# Altium footprint library F10wers_Footprints.PcbLib: 41 footprints (part 1 of 3)
Each footprint in its own frame and in the unit in brackets; x right, y up, seen from the top. Pads: shape width x height; smd on the part's side, far side on the other; paste and mask are expansions set on the pad; w line width, h text height; cw(c..) or ccw(c..) is an arc to the next point about the centre after c.
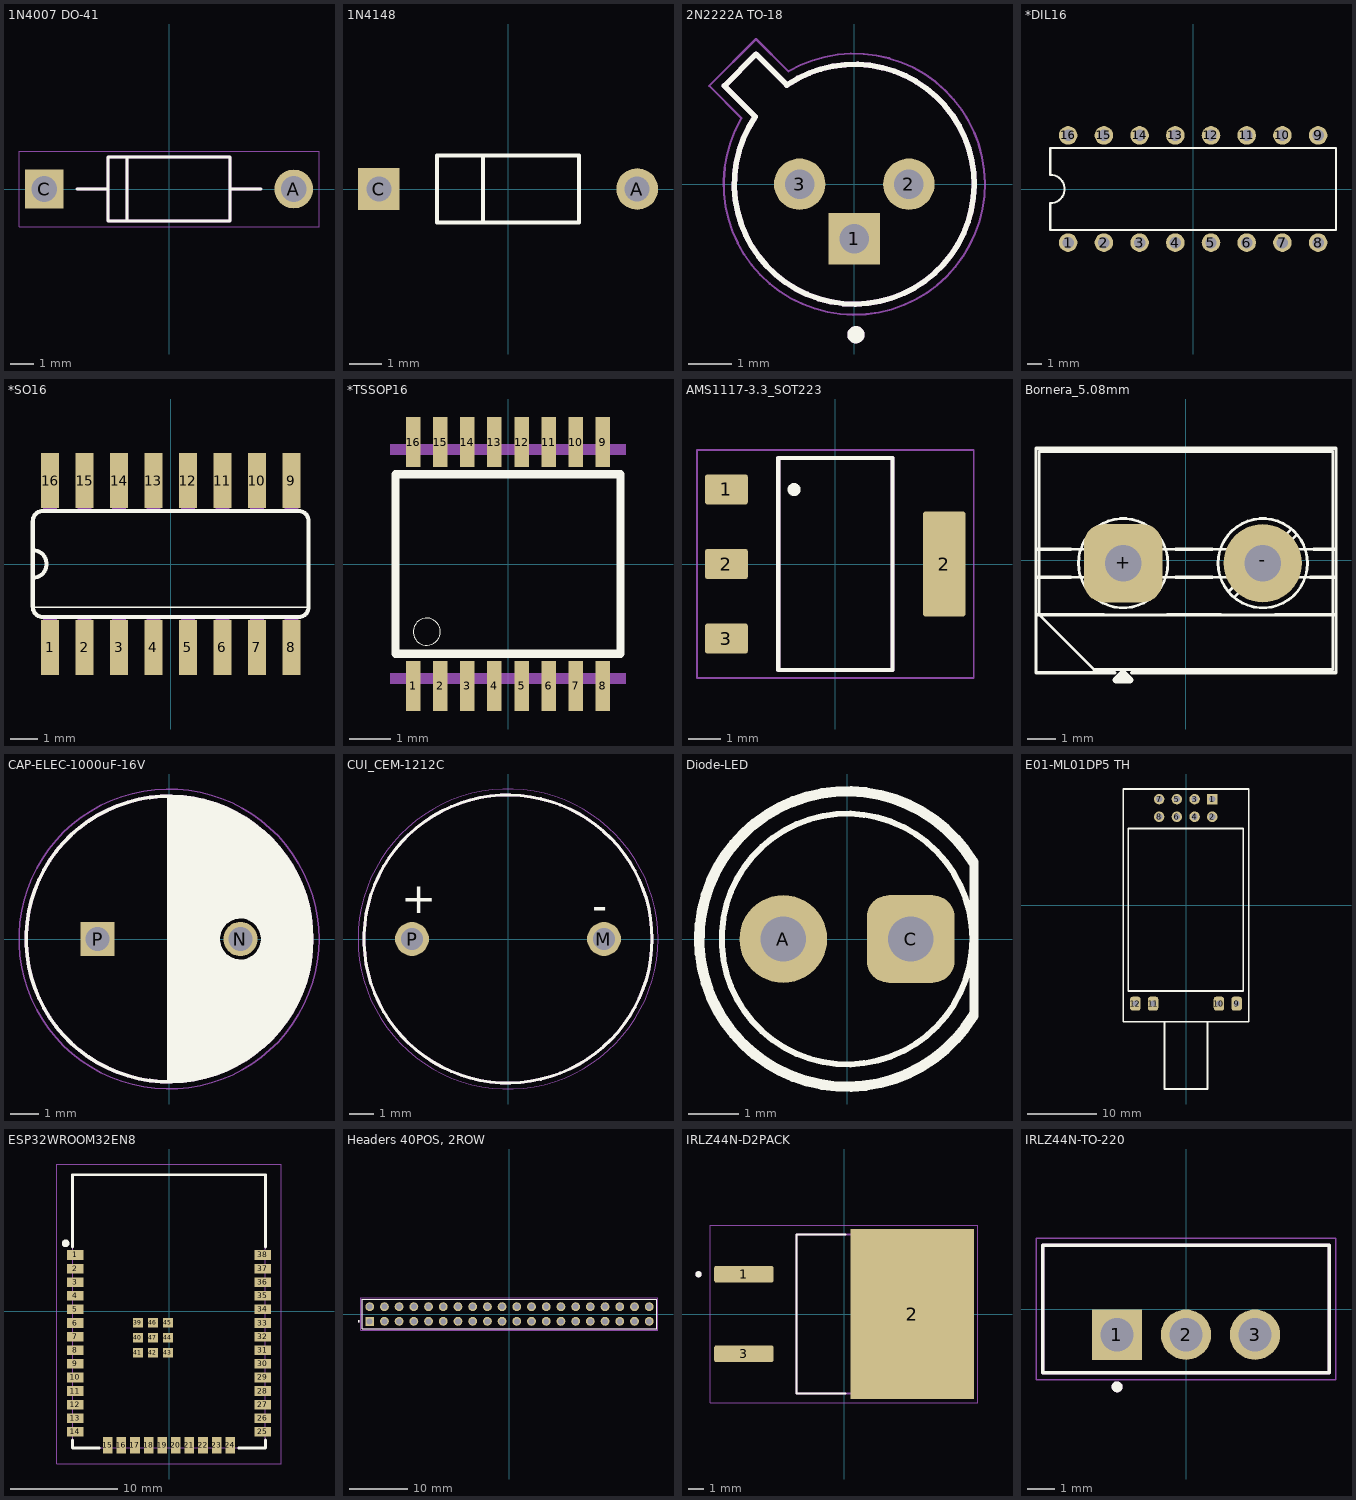
[diagram p0: the footprints below, top view; thin cyan lines are the x and y axes]

## 1N4007 DO-41 [mm]
pads (2):
  round 1.65 hole 1.1 mask+0.102: A(5.3,0)
  rect 1.65x1.65 / inner round 1.65 / far side rect 1.65x1.65 hole 1.1 mask+0.102: C(-5.3,0)
Top Overlay:
  lines w0.127: -3.9,0 -2.6,0 ; 3.9,0 2.6,0 ; -2.6,0 -2.6,1.35 -1.775,1.35 ; -2.6,0 -2.6,-1.35 -1.775,-1.35 ; -1.775,-1.35 2.6,-1.35 2.6,0 ; -1.775,-1.35 -1.775,1.35 ; -1.775,1.35 2.6,1.35 2.6,0
Mechanical 13:
  lines w0.127: -3.9,0 -2.6,0 ; 3.9,0 2.6,0 ; -2.6,0 -2.6,1.35 -1.775,1.35 ; -2.6,0 -2.6,-1.35 -1.775,-1.35 ; -1.775,-1.35 2.6,-1.35 2.6,0 ; -1.775,-1.35 -1.775,1.35 ; -1.775,1.35 2.6,1.35 2.6,0
Mechanical 15:
  lines w0.05: -6.375,-1.6 6.375,-1.6 6.375,1.6 -6.375,1.6 -6.375,-1.6
3D body "1N4007 DO-41.STEP": height 2.89, standoff -4.07, extent -5.545,-1.3 5.4,1.3

## 1N4148 [mm]
pads (2):
  round 1.268 hole 0.76: A(3.937,0)
  rect 1.268x1.268 / inner round 1.268 / far side rect 1.268x1.268 hole 0.76: C(-3.937,0)
Top Overlay:
  lines w0.127: -0.762,-1.016 -0.762,1.016 ; -2.159,-1.016 2.159,-1.016 2.159,1.016 -2.159,1.016 -2.159,0.508 -2.159,-0.508 -2.159,-1.016
3D body "1N4148-1.STEP": height 1.69, standoff -23.57, extent -4.3,-0.85 4.3,0.85

## 2N2222A TO-18 [mm]
height 5.3
pads (3):
  rect 1.198x1.198 / inner round 1.198 / far side rect 1.198x1.198 hole 0.69 mask+0.102: 1(0,-1.27)
  round 1.198 hole 0.69 mask+0.102: 2(1.27,0) 3(-1.27,0)
Top Overlay:
  circle w0.2: c0.038,-3.5 r0.1
  lines w0.127: -2.311,1.559 ccw(c0,0) -1.559,2.311 ; -2.305,1.568 -3.022,2.285 -2.285,3.022 -1.568,2.305
Mechanical 13:
  circle w0.2: c0.038,-3.5 r0.1
  lines w0.127: -2.311,1.559 ccw(c0,0) -1.559,2.311 ; -2.305,1.568 -3.022,2.285 -2.285,3.022 -1.568,2.305
Mechanical 15:
  lines w0.05: -2.631,1.519 ccw(c0,0) -1.519,2.631 ; -2.623,1.533 -3.375,2.285 -2.285,3.375 -1.533,2.623
3D body "step_temp.STEP": height 5.33, standoff -19.05, extent -3.022,-2.788 2.788,3.022

## *DIL16 [mil]
pads (16):
  round 52 hole 32: 1(-350,-150) 2(-250,-150) 3(-150,-150) 4(-50,-150) 5(50,-150) 6(150,-150) 7(250,-150) 8(350,-150) 9(350,150) 10(250,150) 11(150,150) 12(50,150) 13(-50,150) 14(-150,150) 15(-250,150) 16(-350,150)
Top Overlay:
  lines w6: -400,-115 -400,-40 ccw(c-400,0) -400,40 -400,115 400,115 400,-115 -400,-115
3D body "ULN2003A--3DModel-STEP-269445.STEP": height 209.84, standoff -154.76, extent -377.56,-164.76 377.56,154.92

## *SO16 [mil]
pads (16):
  rect 26x80 smd: 1(-175,-121) 2(-125,-121) 3(-75,-121) 4(-25,-121) 5(25,-121) 6(75,-121) 7(125,-121) 8(175,-121) 9(175,121) 10(125,121) 11(75,121) 12(25,121) 13(-25,121) 14(-75,121) 15(-125,121) 16(-175,121)
Top Overlay:
  lines w2: -200,-63 200,-63
  lines w6: -200,-20 ccw(c-200,0) -200,20 ; -200,-20 -200,-62 ccw(c-185,-62) -185,-77 185,-77 ccw(c185,-62) 200,-62 200,62 ccw(c185,62) 185,77 -185,77 ccw(c-185,62) -200,62 -200,20 ; -200,-20 -200,20
Mechanical 4:
  region: 165,122 185,122 185,77 165,77
  region: 115,122 135,122 135,77 115,77
  region: 65,122 85,122 85,77 65,77
  region: 15,122 35,122 35,77 15,77
  region: 165,-77 185,-77 185,-122 165,-122
  region: 115,-77 135,-77 135,-122 115,-122
  region: 65,-77 85,-77 85,-122 65,-122
  region: 15,-77 35,-77 35,-122 15,-122
  region: -185,122 -165,122 -165,77 -185,77
  region: -135,122 -115,122 -115,77 -135,77
  region: -85,122 -65,122 -65,77 -85,77
  region: -35,-77 -15,-77 -15,-122 -35,-122
  region: -85,-76 -65,-76 -65,-121 -85,-121
  region: -135,-77 -115,-77 -115,-122 -135,-122
  region: -185,-77 -165,-77 -165,-122 -185,-122
  region: -35,122 -15,122 -15,77 -35,77
  region: 165,122 185,122 185,77 165,77
  region: 115,122 135,122 135,77 115,77
  region: 65,122 85,122 85,77 65,77
  region: 15,122 35,122 35,77 15,77
  region: 165,-77 185,-77 185,-122 165,-122
  region: 115,-77 135,-77 135,-122 115,-122
  region: 65,-77 85,-77 85,-122 65,-122
  region: 15,-77 35,-77 35,-122 15,-122
  region: -185,122 -165,122 -165,77 -185,77
  region: -135,122 -115,122 -115,77 -135,77
  region: -85,122 -65,122 -65,77 -85,77
  region: -35,-77 -15,-77 -15,-122 -35,-122
  region: -85,-76 -65,-76 -65,-121 -85,-121
  region: -135,-77 -115,-77 -115,-122 -135,-122
  region: -185,-77 -165,-77 -165,-122 -185,-122
  region: -35,122 -15,122 -15,77 -35,77

## *TSSOP16 [mm]
pads (16):
  rect 0.35x1.2 smd: 1(-2.275,-2.925) 2(-1.625,-2.925) 3(-0.975,-2.925) 4(-0.325,-2.925) 5(0.325,-2.925) 6(0.975,-2.925) 7(1.625,-2.925) 8(2.275,-2.925) 9(2.275,2.925) 10(1.625,2.925) 11(0.975,2.925) 12(0.325,2.925) 13(-0.325,2.925) 14(-0.975,2.925) 15(-1.625,2.925) 16(-2.275,2.925)
Top Overlay:
  circle w0: c-1.95,-1.625 r0.325
  lines w0.203: -2.7,-2.15 2.7,-2.15 2.7,2.15 -2.7,2.15 -2.7,-2.15
Top Solder:
  region: -2.5,3.6 -2.05,3.6 -2.05,2.25 -2.5,2.25
  region: -1.85,3.6 -1.4,3.6 -1.4,2.25 -1.85,2.25
  region: -1.2,3.6 -0.75,3.6 -0.75,2.25 -1.2,2.25
  region: -0.55,3.6 -0.1,3.6 -0.1,2.25 -0.55,2.25
  region: 0.1,3.6 0.55,3.6 0.55,2.25 0.1,2.25
  region: 0.75,3.6 1.2,3.6 1.2,2.25 0.75,2.25
  region: 1.4,3.6 1.85,3.6 1.85,2.25 1.4,2.25
  region: 2.05,3.6 2.5,3.6 2.5,2.25 2.05,2.25
  region: 2.05,-2.25 2.5,-2.25 2.5,-3.6 2.05,-3.6
  region: 1.4,-2.25 1.85,-2.25 1.85,-3.6 1.4,-3.6
  region: 0.75,-2.25 1.2,-2.25 1.2,-3.6 0.75,-3.6
  region: 0.1,-2.25 0.55,-2.25 0.55,-3.6 0.1,-3.6
  region: -0.55,-2.25 -0.1,-2.25 -0.1,-3.6 -0.55,-3.6
  region: -1.2,-2.25 -0.75,-2.25 -0.75,-3.6 -1.2,-3.6
  region: -1.85,-2.25 -1.4,-2.25 -1.4,-3.6 -1.85,-3.6
  region: -2.5,-2.25 -2.05,-2.25 -2.05,-3.6 -2.5,-3.6
Mechanical 4:
  region: -2.825,2.875 -1.725,2.875 -1.725,2.625 -2.825,2.625
  region: -2.175,2.875 -1.075,2.875 -1.075,2.625 -2.175,2.625
  region: -1.525,2.875 -0.425,2.875 -0.425,2.625 -1.525,2.625
  region: -0.875,2.875 0.225,2.875 0.225,2.625 -0.875,2.625
  region: -0.225,2.875 0.875,2.875 0.875,2.625 -0.225,2.625
  region: 0.425,2.875 1.525,2.875 1.525,2.625 0.425,2.625
  region: 1.075,2.875 2.175,2.875 2.175,2.625 1.075,2.625
  region: 1.725,2.875 2.825,2.875 2.825,2.625 1.725,2.625
  region: 1.725,-2.625 2.825,-2.625 2.825,-2.875 1.725,-2.875
  region: 1.075,-2.625 2.175,-2.625 2.175,-2.875 1.075,-2.875
  region: 0.425,-2.625 1.525,-2.625 1.525,-2.875 0.425,-2.875
  region: -0.225,-2.625 0.875,-2.625 0.875,-2.875 -0.225,-2.875
  region: -0.875,-2.625 0.225,-2.625 0.225,-2.875 -0.875,-2.875
  region: -1.525,-2.625 -0.425,-2.625 -0.425,-2.875 -1.525,-2.875
  region: -2.175,-2.625 -1.075,-2.625 -1.075,-2.875 -2.175,-2.875
  region: -2.825,-2.625 -1.725,-2.625 -1.725,-2.875 -2.825,-2.875
  region: -2.825,2.875 -1.725,2.875 -1.725,2.625 -2.825,2.625
  region: -2.175,2.875 -1.075,2.875 -1.075,2.625 -2.175,2.625
  region: -1.525,2.875 -0.425,2.875 -0.425,2.625 -1.525,2.625
  region: -0.875,2.875 0.225,2.875 0.225,2.625 -0.875,2.625
  region: -0.225,2.875 0.875,2.875 0.875,2.625 -0.225,2.625
  region: 0.425,2.875 1.525,2.875 1.525,2.625 0.425,2.625
  region: 1.075,2.875 2.175,2.875 2.175,2.625 1.075,2.625
  region: 1.725,2.875 2.825,2.875 2.825,2.625 1.725,2.625
  region: 1.725,-2.625 2.825,-2.625 2.825,-2.875 1.725,-2.875
  region: 1.075,-2.625 2.175,-2.625 2.175,-2.875 1.075,-2.875
  region: 0.425,-2.625 1.525,-2.625 1.525,-2.875 0.425,-2.875
  region: -0.225,-2.625 0.875,-2.625 0.875,-2.875 -0.225,-2.875
  region: -0.875,-2.625 0.225,-2.625 0.225,-2.875 -0.875,-2.875
  region: -1.525,-2.625 -0.425,-2.625 -0.425,-2.875 -1.525,-2.875
  region: -2.175,-2.625 -1.075,-2.625 -1.075,-2.875 -2.175,-2.875
  region: -2.825,-2.625 -1.725,-2.625 -1.725,-2.875 -2.825,-2.875

## AMS1117-3.3_SOT223 [mm]
height 1.8
pads (4):
  rrect15% 1.31x0.93 smd: 1(-3.345,2.29) 2(-3.345,0) 3(-3.345,-2.29)
  rrect15% 1.31x3.24 smd: 2(3.345,0)
Top Overlay:
  circle w0.2: c-1.27,2.286 r0.1
  lines w0.127: -1.753,-3.253 -1.753,3.253 1.753,3.253 1.753,-3.253 -1.753,-3.253
Mechanical 13:
  lines w0.127: -1.753,-3.253 -1.753,3.253 1.753,3.253 1.753,-3.253 -1.753,-3.253
Mechanical 15:
  lines w0.05: -4.25,-3.502 4.25,-3.502 4.25,3.502 -4.25,3.502 -4.25,-3.502
3D body "step_temp.STEP": height 1.8, standoff 0, extent -3.499,-3.251 3.499,3.251

## Bornera_5.08mm [mm]
pads (2):
  rrect50% 2.8x2.8 hole 1.3: +(-2.246,-0.1)
  round 2.8 hole 1.3: -(2.754,-0.1)
Top Overlay:
  circle w0.1: c-2.246,-0.1 r1.6
  circle w0.1: c2.754,-0.1 r1.6
  lines w0.1: -5.246,0.4 5.254,0.4 ; -5.221,-0.6 5.229,-0.6 ; -3.471,-1.125 -1.228,1.118 -1.228,1.113 ; -3.271,-1.325 -1.033,0.918 ; 1.536,-1.113 3.779,1.13 ; 1.736,-1.313 3.974,0.93 ; 5.229,-1.95 -5.246,-1.95 ; -5.246,-1.95 -3.296,-3.9 5.254,-3.9 5.254,3.9 -5.246,3.9 -5.246,-1.95 ; -5.246,-1.95 -5.246,-1.95
  lines w0.12: -5.366,-1.95 -2.946,-1.95 ; -5.366,-0.6 -4.126,-0.6 ; -5.366,0.4 -4.126,0.4 ; -2.546,-4.02 -5.366,-4.02 -5.366,4.02 5.374,4.02 5.374,-4.02 -1.946,-4.02 ; -0.666,-1.95 1.242,-1.95 ; -0.366,-0.6 0.942,-0.6 ; -0.366,0.4 0.942,0.4 ; 3.194,-1.95 5.374,-1.95 ; 4.454,-0.6 5.374,-0.6 ; 4.566,0.4 5.374,0.4
  lines w0.254: -2.496,-4.275 -2.246,-4.025 -1.996,-4.275 -2.121,-4.275 -2.184,-4.275 -2.215,-4.275 -2.277,-4.275 -2.309,-4.275 -2.371,-4.275 -2.496,-4.275
3D body "2 PIN - DG306-5 - PITCH 5 mm.stp": height 10.01, standoff -3.87, extent -5.325,-3.775 5.275,3.825

## CAP-ELEC-1000uF-16V [mm]
pads (2):
  round 1.2 hole 0.85: N(2.5,0)
  rect 1.2x1.2 hole 0.85: P(-2.5,0)
Top Overlay:
  circle w0.127: c0,0 r5
  circle w0.127: c2.5,0 r0.775
  region: 0,0 0,5 0.6,5 0.75,4.95 1.225,4.9 1.355,4.816 1.625,4.775 1.825,4.675 2.075,4.6 2.305,4.435 2.5,4.375 2.825,4.15 3.025,4.05 3.025,4.025 4.1,2.95 4.15,2.775 4.425,2.45 4.507,2.232 4.625,2 4.625,1.8
  region: 0,0 0,-5 0.025,-4.975 0.825,-4.975 1,-4.9 1.35,-4.825 1.525,-4.75 2.009,-4.612 3.098,-3.954
  region: 2.312,0.9 2.312,0.821 2.241,0.75 2.875,0.725 2.925,1.175
  region: 2.875,0.725 2.925,1.175 3,1.175 3.225,1.4 3.55,1.4 3.95,1.8 4.625,1.8 4.625,1.75 4.8,1.575 4.8,1.225 4.925,1.1 4.925,0.575 5,0.5 5,-0.725 4.875,-0.85 4.875,-1.325 4.725,-1.475 4.725,-1.8 4.525,-2 4.65,-1.725
  region: -0.044,-0.017 2.575,1.025 1.72,0.288 1.8,-0.375 2.125,-0.7 2.8,-0.75 2.62,-3.417
  region: 3.325,0.25 4.65,-1.075 4.65,-1.875 4.45,-2.25 2.68,-2.081
  region: 3.1,-0.575 2.975,-0.575 2.71,-0.84 2.71,-2.084
  region: 2.71,-2.084 2.975,-2.025 4.45,-2.25 4.45,-2.375 4.2,-2.65 4.175,-2.825 3.526,-3.526 3.475,-3.577 3.098,-3.954
  region: 2.71,-2.084 2.62,-2.173 2.62,-3.477 3.098,-3.954 3.175,-3.877 3.175,-2.548
  lines w0.127: 0,-5 0,5
Mechanical 13:
  circle w0.127: c0,0 r5
Mechanical 15:
  circle w0.05: c0,0 r5.25
3D body "step_temp.STEP": height 16, standoff -17, extent -5,-4.999 5,4.999

## CUI_CEM-1212C [mm]
pads (2):
  round 1.408 hole 0.9: M(4,0) P(-4,0)
Top Overlay:
  circle w0.127: c0,0 r6
  text "+" at -4.45,1.075 h1.27
  text "-" at 3.5,0.75 h1.27
Mechanical 13:
  circle w0.127: c0,0 r6
Mechanical 15:
  circle w0.05: c0,0 r6.25
3D body "step_temp.STEP": height 9.5, standoff -4.5, extent -6,-6 6,6

## Diode-LED [mm]
pads (2):
  round 1.75 hole 0.9: A(-1.27,0)
  rrect50% 1.75x1.75 hole 0.9: C(1.27,0)
Top Overlay:
  circle w0.12: c0,0 r2.5
  lines w0.12: 2.483,-1.498 cw(c0,0) 2.5,1.47 ; 2.5,-1.47 2.5,1.47 ; 2.56,-1.545 cw(c0,0) 2.56,1.545 2.56,-1.545
3D body "LED 5mm blue.step": height 8.7, standoff -25, extent -2.888,-2.898 2.5,2.898

## E01-ML01DP5 TH [mm]
pads (12):
  rect 1.5x1.5 hole 0.9: 1(3.77,15.25)
  round 1.5 hole 0.9: 2(3.77,12.71) 3(1.23,15.25) 4(1.23,12.71) 5(-1.31,15.25) 6(-1.31,12.71) 7(-3.85,15.25) 8(-3.85,12.71)
  rrect50% 1.5x2 hole 0.85: 9(7.27,-14.1) 10(4.73,-14.1) 11(-4.73,-14.1) 12(-7.27,-14.1)
Top Overlay:
  lines w0.254: -3.1,-16.75 -3.1,-26.35 3.1,-26.35 3.1,-16.75 ; -9,-16.7 -9,16.7 9,16.7 9,-16.7 -9,-16.7 ; -8.275,-12.275 8.2,-12.275 8.2,11.025 -8.275,11.025 -8.275,-12.275
3D body "E01-ML01DP5 TH.stp": height 4.06, standoff -5.99, extent -9.075,-26.425 8.975,16.625

## ESP32WROOM32EN8 [mm]
pads (47):
  rect 1.5x0.9 smd: 1(-8.75,5.26) 2(-8.75,3.99) 3(-8.75,2.72) 4(-8.75,1.45) 5(-8.75,0.18) 6(-8.75,-1.09) 7(-8.75,-2.36) 8(-8.75,-3.63) 9(-8.75,-4.9) 10(-8.75,-6.17) 11(-8.75,-7.44) 12(-8.75,-8.71) 13(-8.75,-9.98) 14(-8.75,-11.25) 25(8.75,-11.25) 26(8.75,-9.98) 27(8.75,-8.71) 28(8.75,-7.44) 29(8.75,-6.17) 30(8.75,-4.9) 31(8.75,-3.63) 32(8.75,-2.36) 33(8.75,-1.09) 34(8.75,0.18) 35(8.75,1.45) 36(8.75,2.72) 37(8.75,3.99) 38(8.75,5.26)
  rect 0.9x1.5 smd: 15(-5.715,-12.5) 16(-4.445,-12.5) 17(-3.175,-12.5) 18(-1.905,-12.5) 19(-0.635,-12.5) 20(0.635,-12.5) 21(1.905,-12.5) 22(3.175,-12.5) 23(4.445,-12.5) 24(5.715,-12.5)
  rect 0.9x0.9 smd: 39(-2.9,-1.06) 40(-2.9,-2.46) 41(-2.9,-3.86) 42(-1.5,-3.86) 43(-0.1,-3.86) 44(-0.1,-2.46) 45(-0.1,-1.06) 46(-1.5,-1.06) 47(-1.5,-2.46)
Top Overlay:
  lines w0.254: -9,-12 -9,-12.75 -6.5,-12.75 ; -9,6 -9,12.75 9,12.75 9,6 ; 6.5,-12.75 9,-12.75 9,-12
  lines w0.5: -9.752,6.35 ccw(c-9.652,6.35) -9.552,6.35 ccw(c-9.652,6.35) -9.752,6.35
Mechanical 13:
  lines w0.1: -10.5,-14.25 -10.5,13.75 10.5,13.75 10.5,-14.25 -10.5,-14.25 ; -9,-12.75 -9,12.75 9,12.75 9,-12.75 -9,-12.75
3D body "step_temp.STEP": height 3.25, standoff 0, extent -9,-12.75 9,12.75

## Headers 40POS, 2ROW [mm]
pads (40):
  rect 1.53x1.53 / inner round 1.53 / far side rect 1.53x1.53 hole 1.02: 01(-24.13,-1.27)
  round 1.53 hole 1.02: 02(-24.13,1.27) 03(-21.59,-1.27) 04(-21.59,1.27) 05(-19.05,-1.27) 06(-19.05,1.27) 07(-16.51,-1.27) 08(-16.51,1.27) 09(-13.97,-1.27) 10(-13.97,1.27) 11(-11.43,-1.27) 12(-11.43,1.27) 13(-8.89,-1.27) 14(-8.89,1.27) 15(-6.35,-1.27) 16(-6.35,1.27) 17(-3.81,-1.27) 18(-3.81,1.27) 19(-1.27,-1.27) 20(-1.27,1.27) 21(1.27,-1.27) 22(1.27,1.27) 23(3.81,-1.27) 24(3.81,1.27) 25(6.35,-1.27) 26(6.35,1.27) 27(8.89,-1.27) 28(8.89,1.27) 29(11.43,-1.27) 30(11.43,1.27) 31(13.97,-1.27) 32(13.97,1.27) 33(16.51,-1.27) 34(16.51,1.27) 35(19.05,-1.27) 36(19.05,1.27) 37(21.59,-1.27) 38(21.59,1.27) 39(24.13,-1.27) 40(24.13,1.27)
Top Overlay:
  circle w0.2: c-26.05,-1.27 r0.1
  lines w0.2: -25.4,-2.54 25.4,-2.54 25.4,2.54 -25.4,2.54 -25.4,-2.54
Mechanical 13:
  circle w0.2: c-26.05,-1.27 r0.1
  lines w0.1: -25.4,-2.54 -25.4,2.54 25.4,2.54 25.4,-2.54 -25.4,-2.54
Mechanical 15:
  lines w0.05: -25.65,-2.79 25.65,-2.79 25.65,2.79 -25.65,2.79 -25.65,-2.79

## IRLZ44N-D2PACK [mm]
pads (3):
  rrect25% 3.78x1.06 smd: 1(-6.4,2.54) 3(-6.4,-2.54)
  rect 7.88x10.84 smd paste-6: 2(4.35,0)
Top Overlay:
  circle w0.2: c-9.29,2.54 r0.1
  lines w0.127: 0.09,-5.08 -3.043,-5.08 -3.043,5.08 0.09,5.08
Top Paste:
  region: 7.74,3.9 6.22,3.9 6.22,5.15 7.74,5.15
  region: 5.11,3.9 3.59,3.9 3.59,5.15 5.11,5.15
  region: 2.48,3.9 0.96,3.9 0.96,5.15 2.48,5.15
  region: 7.74,2.09 6.22,2.09 6.22,3.34 7.74,3.34
  region: 5.11,2.09 3.59,2.09 3.59,3.34 5.11,3.34
  region: 2.48,2.09 0.96,2.09 0.96,3.34 2.48,3.34
  region: 7.74,-5.15 6.22,-5.15 6.22,-3.9 7.74,-3.9
  region: 5.11,-5.15 3.59,-5.15 3.59,-3.9 5.11,-3.9
  region: 2.48,-5.15 0.96,-5.15 0.96,-3.9 2.48,-3.9
  region: 7.74,-3.34 6.22,-3.34 6.22,-2.09 7.74,-2.09
  region: 5.11,-3.34 3.59,-3.34 3.59,-2.09 5.11,-2.09
  region: 2.48,-3.34 0.96,-3.34 0.96,-2.09 2.48,-2.09
  region: 7.74,-1.53 6.22,-1.53 6.22,-0.28 7.74,-0.28
  region: 5.11,-1.53 3.59,-1.53 3.59,-0.28 5.11,-0.28
  region: 2.48,-1.53 0.96,-1.53 0.96,-0.28 2.48,-0.28
  region: 7.74,0.28 6.22,0.28 6.22,1.53 7.74,1.53
  region: 5.11,0.28 3.59,0.28 3.59,1.53 5.11,1.53
  region: 2.48,0.28 0.96,0.28 0.96,1.53 2.48,1.53
Mechanical 13:
  circle w0.2: c-9.29,2.54 r0.1
  lines w0.127: -3.043,-5.08 5.973,-5.08 5.973,5.08 -3.043,5.08 -3.043,-5.08
Mechanical 15:
  lines w0.05: -8.54,-5.67 8.54,-5.67 8.54,5.67 -8.54,5.67 -8.54,-5.67
3D body "step_temp.STEP": height 4.65, standoff -0.15, extent -7.175,-5.08 7.175,5.08

## IRLZ44N-TO-220 [mm]
height 19.3
pads (3):
  rect 1.85x1.85 / inner round 1.85 / far side rect 1.85x1.85 hole 1.23: 1(-2.54,-0.94)
  round 1.85 hole 1.23: 2(0,-0.94) 3(2.54,-0.94)
Top Overlay:
  circle w0.2: c-2.54,-2.86 r0.1
  lines w0.127: -5.27,-2.35 -5.27,2.35 5.27,2.35 5.27,-2.35 -5.27,-2.35
Mechanical 13:
  circle w0.2: c-2.54,-2.86 r0.1
  lines w0.127: -5.27,-2.35 5.27,-2.35 5.27,2.35 -5.27,2.35 -5.27,-2.35
Mechanical 15:
  lines w0.05: -5.52,-2.6 -5.52,2.6 5.52,2.6 5.52,-2.6 -5.52,-2.6
3D body "step_temp.STEP": height 15.01, standoff -10.39, extent -5.08,-1.714 5.08,2.73